# Altium footprint library SO.PcbLib: 31 footprints (part 2 of 2)
Each footprint in its own frame and in the unit in brackets; x right, y up, seen from the top. Pads: shape width x height; smd on the part's side, far side on the other; paste and mask are expansions set on the pad; w line width, h text height; cw(c..) or ccw(c..) is an arc to the next point about the centre after c.
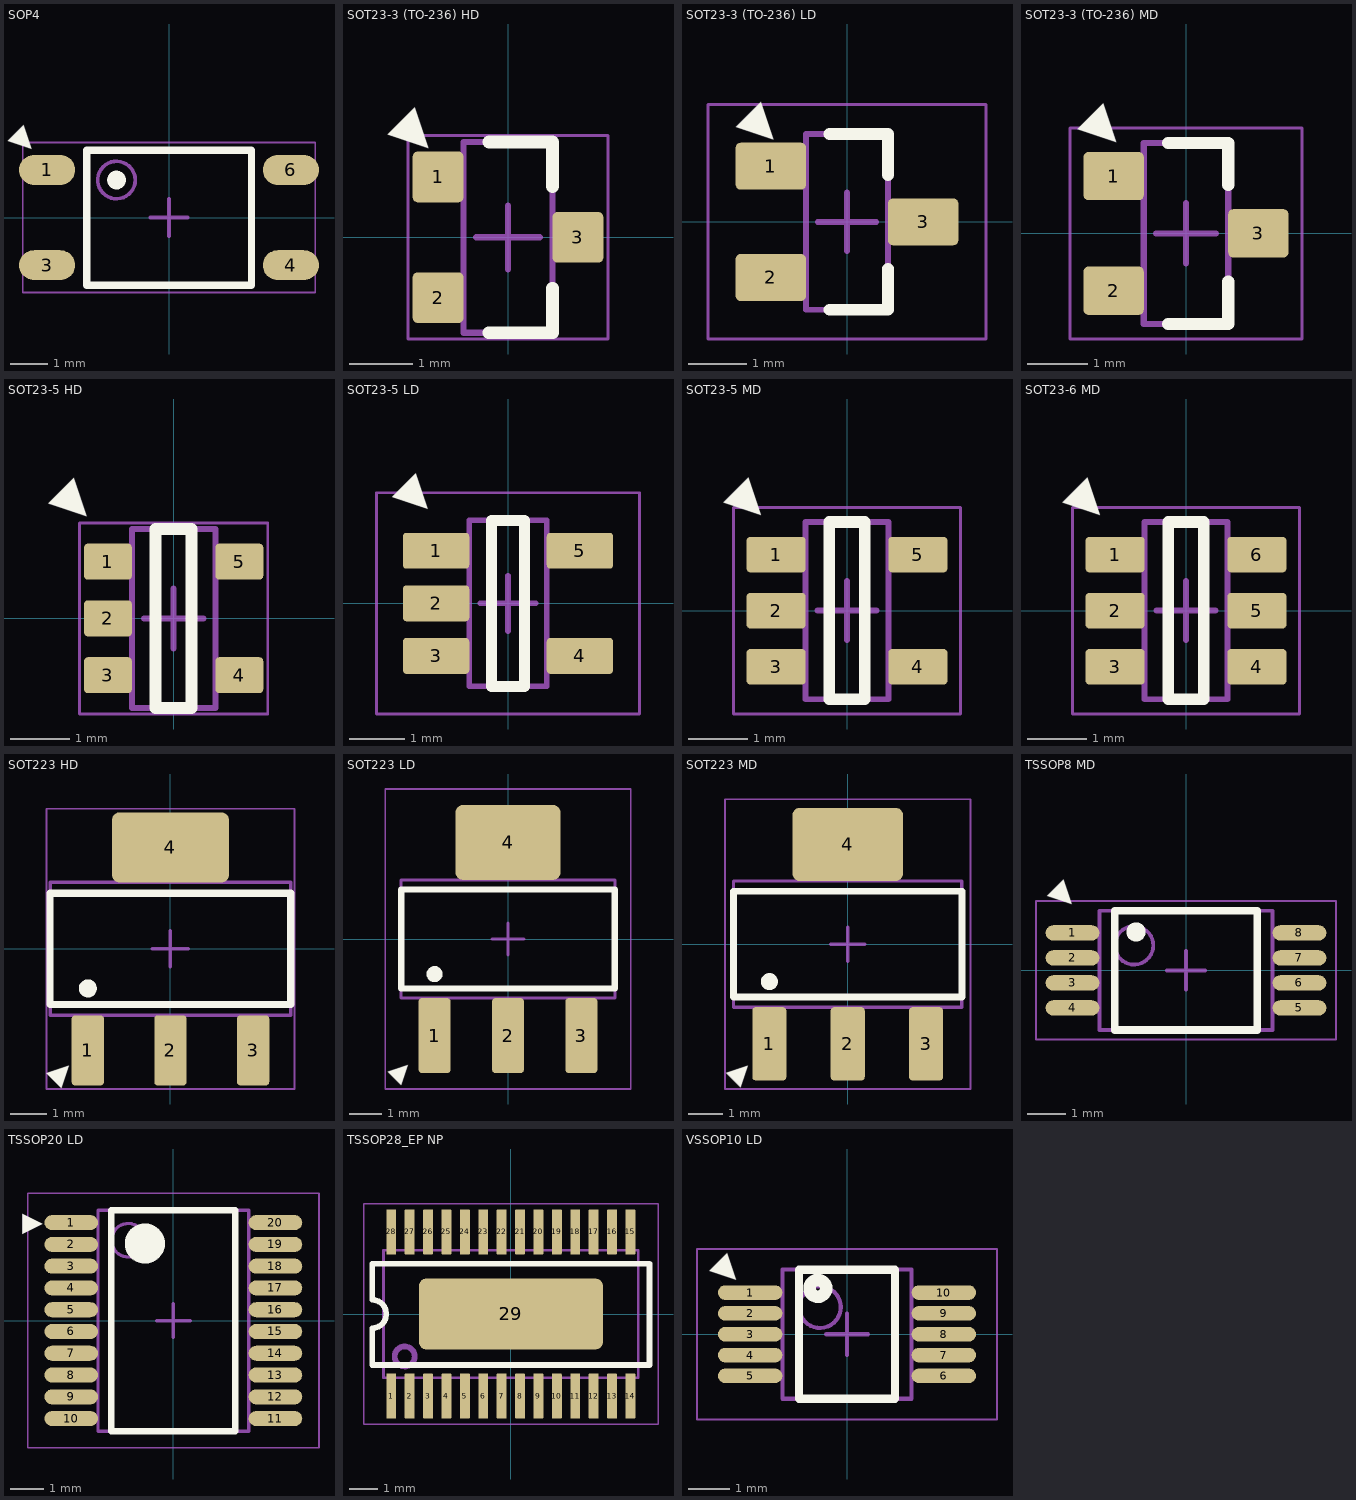
[diagram p1: the footprints below, top view; thin cyan lines are the x and y axes]

## SOP4 [mm]
height 1.2
pads (4):
  oval 1.5x0.8 smd mask+0.05: 1(-3.25,1.27) 3(-3.25,-1.27) 4(3.25,-1.27) 6(3.25,1.27)
Top Overlay:
  circle w0.25: c-1.4,1 r0.125
  lines w0.2: -2.2,-1.8 -2.2,1.8 2.2,1.8 2.2,-1.8 -2.2,-1.8
  text "▲" at -3.942,2.542 h1
Top Assembly:
  circle w0.1: c-1.4,1 r0.5
  lines w0.1: -2.2,-1.8 2.2,-1.8 2.2,1.8 -2.2,1.8 -2.2,-1.8
Top Courtyard:
  lines w0.05: -3.9,-2 -3.9,2 3.9,2 3.9,-2 -3.9,-2
Top Component Center:
  lines w0.1: -0.5,0 0.5,0 ; 0,-0.5 0,0.5
3D body "TLP185.step": height 2.2, standoff 0, extent -3.514,-1.9 3.514,1.9

## SOT23-3 (TO-236) HD [mm] "SOT23, 3-Leads, Body 2,90x2,37mm, Pitch 0,95mm, IPC High Density"
height 1.1
pads (3):
  rrect20% 0.8x0.8 smd mask+0.05: 1(-1.1,0.95) 2(-1.1,-0.95) 3(1.1,0)
Top Overlay:
  lines w0.2: -0.3,-1.5 0.7,-1.5 0.7,-0.8 ; -0.3,1.5 0.7,1.5 0.7,0.8
  text "▲" at -1.531,2.121 h1
Top Assembly:
  lines w0.1: -0.7,-1.5 0.7,-1.5 0.7,1.5 -0.7,1.5 -0.7,-1.5
Top Courtyard:
  lines w0.05: -1.575,-1.6 1.575,-1.6 1.575,1.6 -1.575,1.6 -1.575,-1.6
Top Component Center:
  lines w0.1: -0.5,0 0.5,0 ; 0,-0.5 0,0.5
3D body "SOT-23-3 (TO-236) HD.step": height 1.1, standoff 0, extent -1.32,-1.5 1.32,1.5

## SOT23-3 (TO-236) LD [mm] "SOT23, 3-Leads, Body 2,90x2,37mm, Pitch 0,95mm, IPC Low Density"
height 1.1
pads (3):
  rrect20% 1.2x0.8 smd mask+0.05: 1(-1.3,0.95) 2(-1.3,-0.95) 3(1.3,0)
Top Overlay:
  lines w0.2: -0.3,-1.5 0.7,-1.5 0.7,-0.8 ; -0.3,1.5 0.7,1.5 0.7,0.8
  text "▲" at -1.531,2.121 h1
Top Assembly:
  lines w0.1: -0.7,-1.5 -0.7,1.5 0.7,1.5 0.7,-1.5 -0.7,-1.5
Top Courtyard:
  lines w0.05: -2.375,-2 -2.375,2 2.375,2 2.375,-2 -2.375,-2
Top Component Center:
  lines w0.1: -0.5,0 0.5,0 ; 0,-0.5 0,0.5
3D body "SOT-23-3 (TO-236) LD.step": height 1.1, standoff 0, extent -1.32,-1.5 1.32,1.5

## SOT23-3 (TO-236) MD [mm] "SOT23, 3-Leads, Body 2,90x2,37mm, Pitch 0,95mm, IPC Medium Density"
height 1.1
pads (3):
  rrect20% 1x0.8 smd mask+0.05: 1(-1.2,0.95) 2(-1.2,-0.95) 3(1.2,0)
Top Overlay:
  lines w0.2: -0.3,-1.5 0.7,-1.5 0.7,-0.8 ; -0.3,1.5 0.7,1.5 0.7,0.8
  text "▲" at -1.431,2.221 h1
Top Assembly:
  lines w0.1: -0.7,-1.5 -0.7,1.5 0.7,1.5 0.7,-1.5 -0.7,-1.5
Top Courtyard:
  lines w0.05: -1.925,-1.75 -1.925,1.75 1.925,1.75 1.925,-1.75 -1.925,-1.75
Top Component Center:
  lines w0.1: -0.5,0 0.5,0 ; 0,-0.5 0,0.5
3D body "SOT-23-3 (TO-236) MD.step": height 1.1, standoff 0, extent -1.32,-1.5 1.32,1.5

## SOT23-5 HD [mm] "SOT23, 5-Leads, Body 2,90x2,37mm, Pitch 0,95mm, IPC High Density"
height 1.3
pads (5):
  rrect20% 0.8x0.6 smd mask+0.05: 1(-1.1,0.95) 2(-1.1,0) 3(-1.1,-0.95) 4(1.1,-0.95) 5(1.1,0.95)
Top Overlay:
  lines w0.2: -0.3,-1.5 0.3,-1.5 0.3,1.5 -0.3,1.5 -0.3,-1.5
  text "▲" at -1.731,2.421 h1
Top Assembly:
  lines w0.1: -0.7,-1.5 -0.7,1.5 0.7,1.5 0.7,-1.5 -0.7,-1.5
Top Courtyard:
  lines w0.05: -1.575,-1.6 -1.575,1.6 1.575,1.6 1.575,-1.6 -1.575,-1.6
Top Component Center:
  lines w0.1: -0.5,0 0.5,0 ; 0,-0.5 0,0.5
3D body "SOT23-5 HD.step": height 1.3, standoff 0, extent -1.32,-1.5 1.32,1.5

## SOT23-5 LD [mm] "SOT23, 5-Leads, Body 2,90x2,37mm, Pitch 0,95mm, IPC Low Density"
height 1.3
pads (5):
  rrect20% 1.2x0.65 smd mask+0.05: 1(-1.3,0.95) 2(-1.3,0) 3(-1.3,-0.95) 4(1.3,-0.95) 5(1.3,0.95)
Top Overlay:
  lines w0.2: -0.3,-1.5 -0.3,1.5 0.3,1.5 0.3,-1.5 -0.3,-1.5
  text "▲" at -1.731,2.421 h1
Top Assembly:
  lines w0.1: -0.7,-1.5 0.7,-1.5 0.7,1.5 -0.7,1.5 -0.7,-1.5
Top Courtyard:
  lines w0.05: -2.375,-2 2.375,-2 2.375,2 -2.375,2 -2.375,-2
Top Component Center:
  lines w0.1: -0.5,0 0.5,0 ; 0,-0.5 0,0.5
3D body "SOT-23-5 LD.step": height 1.3, standoff 0, extent -1.32,-1.5 1.32,1.5

## SOT23-5 MD [mm] "SOT23, 5-Leads, Body 2,90x2,37mm, Pitch 0,95mm, IPC Medium Density"
height 1.3
pads (5):
  rrect20% 1x0.6 smd mask+0.05: 1(-1.2,0.95) 2(-1.2,0) 3(-1.2,-0.95) 4(1.2,-0.95) 5(1.2,0.95)
Top Overlay:
  lines w0.2: -0.3,-1.5 0.3,-1.5 0.3,1.5 -0.3,1.5 -0.3,-1.5
  text "▲" at -1.731,2.331 h1
Top Assembly:
  lines w0.1: -0.7,-1.5 -0.7,1.5 0.7,1.5 0.7,-1.5 -0.7,-1.5
Top Courtyard:
  lines w0.05: -1.925,-1.75 -1.925,1.75 1.925,1.75 1.925,-1.75 -1.925,-1.75
Top Component Center:
  lines w0.1: -0.5,0 0.5,0 ; 0,-0.5 0,0.5
3D body "SOT-23-5 MD.step": height 1.3, standoff 0, extent -1.32,-1.5 1.32,1.5

## SOT23-6 MD [mm] "SOT23, 6-Leads, Body 2,90x2,37mm, Pitch 0,95mm, IPC Medium Density"
height 1.3
pads (6):
  rrect20% 1x0.6 smd mask+0.05: 1(-1.2,0.95) 2(-1.2,0) 3(-1.2,-0.95) 4(1.2,-0.95) 5(1.2,0) 6(1.2,0.95)
Top Overlay:
  lines w0.2: -0.3,-1.5 -0.3,1.5 0.3,1.5 0.3,-1.5 -0.3,-1.5
  text "▲" at -1.731,2.331 h1
Top Assembly:
  lines w0.1: -0.7,-1.5 0.7,-1.5 0.7,1.5 -0.7,1.5 -0.7,-1.5
Top Courtyard:
  lines w0.05: -1.925,-1.75 1.925,-1.75 1.925,1.75 -1.925,1.75 -1.925,-1.75
Top Component Center:
  lines w0.1: -0.5,0 0.5,0 ; 0,-0.5 0,0.5
3D body "SOT-23-5 MD.step": height 1.3, standoff 0, extent -1.32,-1.5 1.32,1.5

## SOT223 HD [mm] "SOT223, 4-Leads, Body 6,50x7,00mm (avg), Pitch 2,30mm, IPC High Density"
height 1.8
pads (4):
  rrect20% 0.9x1.95 smd: 1(-2.3,-2.825) 2(0,-2.825) 3(2.3,-2.825)
  rrect20% 3.25x1.95 smd: 4(0,2.825)
Top Overlay:
  circle w0.25: c-2.3,-1.1 r0.125
  lines w0.2: -3.35,-1.55 3.35,-1.55 3.35,1.55 -3.35,1.55 -3.35,-1.55
  text "▲" at -3.531,-3.531 h1
Top Assembly:
  lines w0.1: -3.35,-1.85 3.35,-1.85 3.35,1.85 -3.35,1.85 -3.35,-1.85
Top Courtyard:
  lines w0.05: -3.45,-3.9 3.45,-3.9 3.45,3.9 -3.45,3.9 -3.45,-3.9
Top Component Center:
  lines w0.1: -0.5,0 0.5,0 ; 0,-0.5 0,0.5
3D body "SOT223 HD.step": height 1.8, standoff 0, extent -3.35,-3.5 3.35,3.5

## SOT223 LD [mm] "SOT223, 4-Leads, Body 6,50x7,00mm (avg), Pitch 2,30mm, IPC Low Density"
height 1.8
pads (4):
  rrect20% 1x2.35 smd mask+0.05: 1(-2.3,-3.025) 2(0,-3.025) 3(2.3,-3.025)
  rrect20% 3.3x2.35 smd mask+0.05: 4(0,3.025)
Top Overlay:
  circle w0.25: c-2.3,-1.1 r0.125
  lines w0.2: -3.35,-1.55 -3.35,1.55 3.35,1.55 3.35,-1.55 -3.35,-1.55
  text "▲" at -3.842,-4.242 h1
Top Assembly:
  lines w0.1: -3.35,-1.85 -3.35,1.85 3.35,1.85 3.35,-1.85 -3.35,-1.85
Top Courtyard:
  lines w0.05: -3.85,-4.7 -3.85,4.7 3.85,4.7 3.85,-4.7 -3.85,-4.7
Top Component Center:
  lines w0.1: -0.5,0 0.5,0 ; 0,-0.5 0,0.5
3D body "SOT223 LD.step": height 1.8, standoff 0, extent -3.35,-3.5 3.35,3.5

## SOT223 MD [mm] "SOT223, 4-Leads, Body 6,50x7,00mm (avg), Pitch 2,30mm, IPC Medium Density"
height 1.8
pads (4):
  rrect20% 1x2.15 smd mask+0.05: 1(-2.3,-2.925) 2(0,-2.925) 3(2.3,-2.925)
  rrect20% 3.25x2.15 smd mask+0.05: 4(0,2.925)
Top Overlay:
  circle w0.25: c-2.3,-1.1 r0.125
  lines w0.2: -3.35,-1.55 3.35,-1.55 3.35,1.55 -3.35,1.55 -3.35,-1.55
  text "▲" at -3.642,-3.842 h1
Top Assembly:
  lines w0.1: -3.35,-1.85 3.35,-1.85 3.35,1.85 -3.35,1.85 -3.35,-1.85
Top Courtyard:
  lines w0.05: -3.6,-4.25 3.6,-4.25 3.6,4.25 -3.6,4.25 -3.6,-4.25
Top Component Center:
  lines w0.1: -0.5,0 0.5,0 ; 0,-0.5 0,0.5
3D body "SOT223 MD.step": height 1.8, standoff 0, extent -3.35,-3.5 3.35,3.5

## TSSOP8 MD [mm] "TSOP, 8-Leads, Body 3,00x4,40mm, Pitch 0,65mm, IPC Medium Density"
height 1.2
pads (8):
  oval 1.4x0.4 smd mask+0.05: 1(-2.95,0.975) 2(-2.95,0.325) 3(-2.95,-0.325) 4(-2.95,-0.975) 5(2.95,-0.975) 6(2.95,-0.325) 7(2.95,0.325) 8(2.95,0.975)
Top Overlay:
  circle w0.25: c-1.3,1 r0.125
  lines w0.2: -1.85,-1.55 1.85,-1.55 1.85,1.55 -1.85,1.55 -1.85,-1.55
  text "▲" at -3.242,2.432 h1
Top Assembly:
  circle w0.1: c-1.35,0.65 r0.5
  lines w0.1: -2.25,-1.55 2.25,-1.55 2.25,1.55 -2.25,1.55 -2.25,-1.55
Top Courtyard:
  lines w0.05: -3.9,-1.8 3.9,-1.8 3.9,1.8 -3.9,1.8 -3.9,-1.8
Top Component Center:
  lines w0.1: -0.5,0 0.5,0 ; 0,-0.5 0,0.5
3D body "TSSOP-8 MD.step": height 1.2, standoff 0, extent -3.2,-1.55 3.2,1.55

## TSSOP20 LD [mm] "TSOP, 20-Leads, Body 6,50x4,40mm, Pitch 0,65mm, IPC Low Density"
height 1.2
pads (20):
  oval 1.6x0.45 smd mask+0.05: 1(-3.05,2.925) 2(-3.05,2.275) 3(-3.05,1.625) 4(-3.05,0.975) 5(-3.05,0.325) 6(-3.05,-0.325) 7(-3.05,-0.975) 8(-3.05,-1.625) 9(-3.05,-2.275) 10(-3.05,-2.925) 11(3.05,-2.925) 12(3.05,-2.275) 13(3.05,-1.625) 14(3.05,-0.975) 15(3.05,-0.325) 16(3.05,0.325) 17(3.05,0.975) 18(3.05,1.625) 19(3.05,2.275) 20(3.05,2.925)
Top Overlay:
  circle w0.6: c-0.85,2.3 r0.3
  lines w0.2: -1.85,-3.3 -1.85,3.3 1.85,3.3 1.85,-3.3 -1.85,-3.3
  text "▲" at -4.609,3.195 h1
Top Assembly:
  circle w0.1: c-1.35,2.4 r0.5
  lines w0.1: -2.25,-3.3 2.25,-3.3 2.25,3.3 -2.25,3.3 -2.25,-3.3
Top Courtyard:
  lines w0.05: -4.35,-3.8 4.35,-3.8 4.35,3.8 -4.35,3.8 -4.35,-3.8
Top Component Center:
  lines w0.1: -0.5,0 0.5,0 ; 0,-0.5 0,0.5
3D body "TSSOP20 LD.step": height 1.2, standoff 0, extent -3.2,-3.3 3.2,3.3

## TSSOP28_EP NP [mm]
pads (29):
  rrect20% 0.35x1.6 smd mask+0.05: 1(-4.225,-2.9) 2(-3.575,-2.9) 3(-2.925,-2.9) 4(-2.275,-2.9) 5(-1.625,-2.9) 6(-0.975,-2.9) 7(-0.325,-2.9) 8(0.325,-2.9) 9(0.975,-2.9) 10(1.625,-2.9) 11(2.275,-2.9) 12(2.925,-2.9) 13(3.575,-2.9) 14(4.225,-2.9) 15(4.225,2.9) 16(3.575,2.9) 17(2.925,2.9) 18(2.275,2.9) 19(1.625,2.9) 20(0.975,2.9) 21(0.325,2.9) 22(-0.325,2.9) 23(-0.975,2.9) 24(-1.625,2.9) 25(-2.275,2.9) 26(-2.925,2.9) 27(-3.575,2.9) 28(-4.225,2.9)
  rrect20% 6.5x2.5 smd mask+0.05: 29(0,0)
Top Overlay:
  lines w0.2: -4.9,-1.8 -4.9,-0.5 ccw(c-4.9,0) -4.9,0.5 -4.9,1.778 4.9,1.778 4.9,-1.8 -4.9,-1.8
Top Assembly:
  circle w0.2: c-3.75,-1.5 r0.354
  lines w0.1: -4.5,-2.25 -4.5,2.25 4.5,2.25 4.5,-2.25 -4.5,-2.25
Top Courtyard:
  lines w0.05: -5.2,-3.9 5.2,-3.9 5.2,3.9 -5.2,3.9 -5.2,-3.9
Top Component Center:
  lines w0.1: -0.5,0 0.5,0 ; 0,-0.5 0,0.5
3D body "TSSOP-28.stp": height 1.11, standoff 0.01, extent -4.5,-3.215 4.5,3.215

## VSSOP10 LD [mm] "VSSOP, 10-Leads, Body 3,00x3,00mm, Pitch 0,50mm, IPC Low Density"
height 1.1
pads (10):
  oval 1.55x0.35 smd mask+0.05: 1(-2.325,1) 2(-2.325,0.5) 3(-2.325,0) 4(-2.325,-0.5) 5(-2.325,-1) 6(2.325,-1) 7(2.325,-0.5) 8(2.325,0) 9(2.325,0.5) 10(2.325,1)
Top Overlay:
  circle w0.3: c-0.7,1.1 r0.2
  lines w0.2: -1.15,-1.55 1.15,-1.55 1.15,1.55 -1.15,1.55 -1.15,-1.55
  text "▲" at -2.931,2.021 h1
Top Assembly:
  circle w0.1: c-0.65,0.65 r0.5
  lines w0.1: -1.55,-1.55 1.55,-1.55 1.55,1.55 -1.55,1.55 -1.55,-1.55
Top Courtyard:
  lines w0.05: -3.6,-2.05 3.6,-2.05 3.6,2.05 -3.6,2.05 -3.6,-2.05
Top Component Center:
  lines w0.1: -0.5,0 0.5,0 ; 0,-0.5 0,0.5
3D body "VSSOP10 LD.step": height 1.1, standoff 0, extent -2.45,-1.55 2.45,1.55